# Altium footprint library Altium Footprints.PcbLib: 16 footprints
Each footprint in its own frame and in the unit in brackets; x right, y up, seen from the top. Pads: shape width x height; smd on the part's side, far side on the other; paste and mask are expansions set on the pad; w line width, h text height; cw(c..) or ccw(c..) is an arc to the next point about the centre after c.
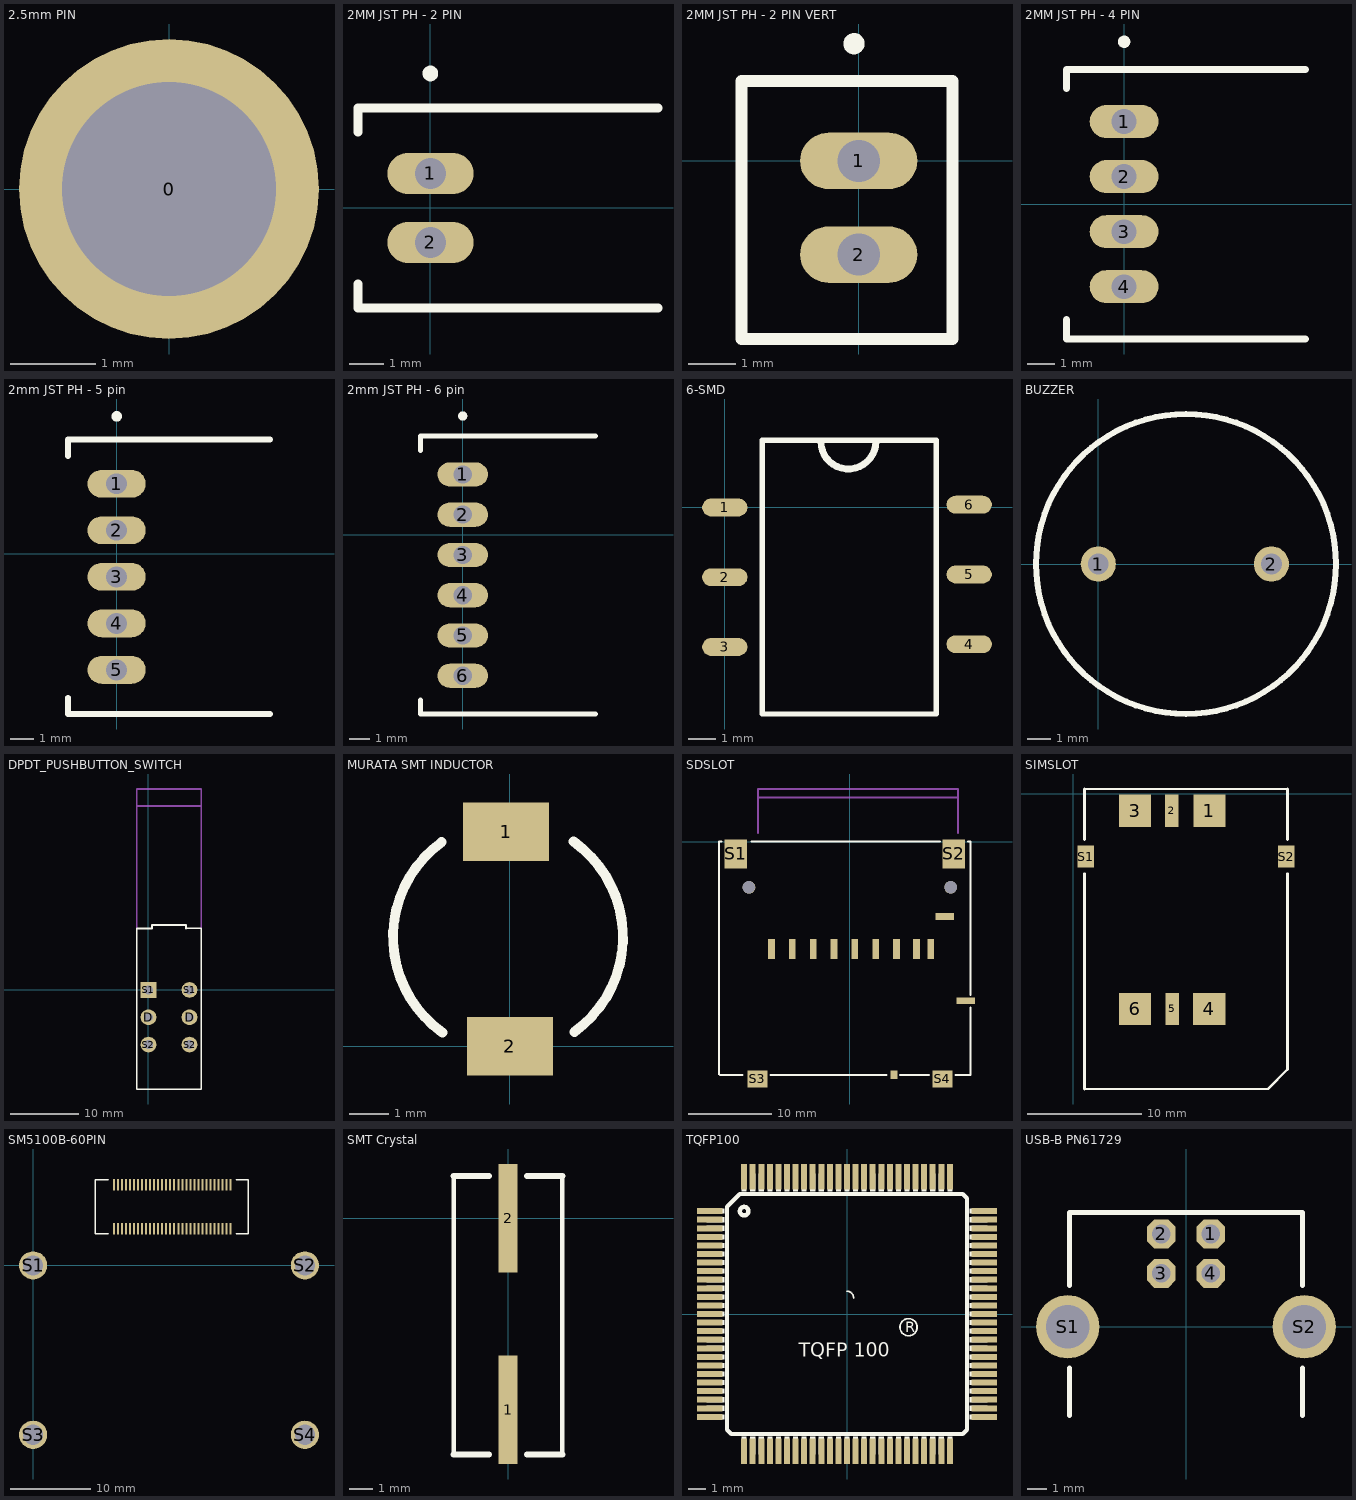
[diagram p0: the footprints below, top view; thin cyan lines are the x and y axes]

## 2.5mm PIN [mm]
pads (1):
  round 3.5 hole 2.5: 0(0,0)

## 2MM JST PH - 2 PIN [mm]
height 4
pads (2):
  oval 2.5x1.2 hole 0.9: 1(0,1) 2(0,-1)
Top Overlay:
  circle w0.254: c0,3.9 r0.1
  lines w0.254: -2.1,-2.2 -2.1,-2.9 6.6,-2.9 ; -2.1,2.2 -2.1,2.9 6.6,2.9
3D body: height 5, standoff 0, extent -2.1,-2.9 6.6,2.9

## 2MM JST PH - 2 PIN VERT [mm]
height 6
pads (2):
  oval 2.5x1.2 hole 0.9: 1(0,0) 2(0,-2)
Top Overlay:
  circle w0.254: c-0.1,2.5 r0.1
  lines w0.254: -2.5,-3.8 2,-3.8 2,1.7 -2.5,1.7 -2.5,-3.8
3D body: height 8, standoff 0, extent -2.5,-3.8 2,1.7

## 2MM JST PH - 4 PIN [mm]
height 4
pads (4):
  oval 2.5x1.2 hole 0.9: 1(0,3) 2(0,1) 3(0,-1) 4(0,-3)
Top Overlay:
  circle w0.254: c0,5.9 r0.1
  lines w0.254: -2.1,-4.2 -2.1,-4.9 6.6,-4.9 ; -2.1,4.2 -2.1,4.9 6.6,4.9
3D body: height 5, standoff 0, extent -2.1,-4.9 6.6,4.9

## 2mm JST PH - 5 pin [mm]
height 4
pads (5):
  oval 2.5x1.2 hole 0.9: 1(0,3) 2(0,1) 3(0,-1) 4(0,-3) 5(0,-5)
Top Overlay:
  circle w0.254: c0,5.9 r0.1
  lines w0.254: -2.1,-6.2 -2.1,-6.9 6.6,-6.9 ; -2.1,4.2 -2.1,4.9 6.6,4.9
3D body: height 5, standoff 0, extent -2.1,-6.9 6.6,4.9

## 2mm JST PH - 6 pin [mm]
height 4
pads (6):
  oval 2.5x1.2 hole 0.9: 1(0,3) 2(0,1) 3(0,-1) 4(0,-3) 5(0,-5) 6(0,-7)
Top Overlay:
  circle w0.254: c0,5.9 r0.1
  lines w0.254: -2.1,-8.2 -2.1,-8.9 6.6,-8.9 ; -2.1,4.2 -2.1,4.9 6.6,4.9
3D body: height 5, standoff 0, extent -2.1,-8.9 6.6,4.9

## 6-SMD [mm]
pads (6):
  oval 1.65x0.65 smd: 1(0,0) 2(0,-2.54) 3(0,-5.08) 4(8.9,-4.98) 5(8.9,-2.44) 6(8.9,0.1)
Top Overlay:
  lines w0.2: 1.36,-7.52 7.7,-7.52 7.7,2.44 1.36,2.44 1.36,-7.52
  lines w0.254: 3.499,2.4 ccw(c4.5,2.4) 5.501,2.4
3D body: height 3, standoff 0, extent 1.36,-7.52 7.7,2.44

## BUZZER [mil] "Piezon Buzzer 458-1066-ND"
height 314.96
pads (2):
  round 60 hole 35.43: 1(0,0) 2(295.28,0)
Top Overlay:
  circle w10: c149.61,0 r255.91
3D body: height 196.85, standoff 0, extent -76.87,-235.75 393.71,235.76

## DPDT_PUSHBUTTON_SWITCH [mm]
height 11.5
pads (6):
  round 2.3 hole 1.3: D(0,-4) D(6,-4) S1(6,0) S2(0,-8) S2(6,-8)
  rect 2.3x2.3 hole 1.3: S1(0,0)
Top Overlay:
  lines w0.2: -1.7,9 -1.7,-14.5 7.7,-14.5 7.7,9 5.5,9
  lines w0.254: -1.7,9 0.5,9 0.5,9.5 5.5,9.5 5.5,9
Mechanical 15:
  lines w0.254: -1.7,9 -1.7,29.4 7.7,29.4 7.7,9.1 ; -1.7,26.9 7.7,26.9
3D body: height 9.5, standoff 1.8, extent -1.7,19 7.7,29.4
3D body: height 11.7, standoff 3, extent 0,9 6,19
3D body: height 11.7, standoff 0, extent -1.7,-14.5 7.7,9

## MURATA SMT INDUCTOR [mm]
height 1.5
pads (2):
  rect 2.2x1.5 smd: 1(-0.1,5.5) 2(0,0)
Top Overlay:
  lines w0.254: -1.753,5.235 ccw(c0,2.8) -1.734,0.352 ; 1.634,5.248 cw(c-0.1,2.8) 1.653,0.365
3D body: height 2, standoff 0, extent -2.976,0.006 3,5.994

## SDSLOT [mm]
height 2.5
pads (18):
  rect 0.8x2.4 smd: 1(-6.9,-12.9) 2(-4.4,-12.9) 3(-1.9,-12.9) 4(0.6,-12.9) 5(3.1,-12.9) 6(5.6,-12.9) 7(8,-12.9) 8(9.7,-12.9) 9(-9.4,-12.9)
  rect 0.8x1 smd: CD(5.3,-28)
  rect 2.25x0.8 smd: COM(13.9,-19.1) WP(11.4,-9)
  rect 2.7x3.5 smd: S1(-13.7,-1.5) S2(12.5,-1.5)
  rect 2.4x2 smd: S3(-11.1,-28.5) S4(11.1,-28.5)
  round 1.524 hole 1.5 unplated: ""(-12.1,-5.5) ""(12.1,-5.5)
Top Overlay:
  lines w0.254: -15.4,0 -15.7,0 -15.7,-0.5 -15.7,-27.9 -15.6,-28 -12.9,-28 ; -11.8,0 10.6,0 10.8,0 ; -9.5,-28 4.4,-28 ; 6,-28 9.5,-28 ; 12.7,-28 14.5,-28 14.5,-19.9 ; 14.2,0 14.5,0 14.5,-18.4
Mechanical 15:
  lines w0.254: -11,1 -11,6.3 13,6.3 13,1 ; -11,5.3 13,5.3
3D body: height 2, standoff 0.4, extent -11,0 13,6.3
3D body: height 2.7, standoff 0, extent -15.7,-28 14.5,0

## SIMSLOT [mm] "6-pin molex 1.9mm sim reader 0473880001"
pads (8):
  rect 2.8x2.8 smd: 1(11.9,-1.5) 3(5.4,-1.5) 4(11.88,-18.8) 6(5.4,-18.8)
  rect 1.2x2.8 smd: 2(8.6,-1.5) 5(8.64,-18.8)
  rect 1.45x1.95 smd: S1(1.1,-5.5) S2(18.6,-5.5)
Top Overlay:
  lines w0.2: 1,-25.8 17,-25.8 18.7,-24.1 ; 1,0.4 18.7,0.4
  lines w0.254: 1,-25.8 1,-7 ; 1,-4 1,0.4 ; 18.7,-24.1 18.7,-7 ; 18.7,-4 18.7,0.4
3D body: height 1.5, standoff 0, extent 1,-25.8 18.7,0.4

## SM5100B-60PIN [mm]
height 1
pads (64):
  rect 0.25x1.4 smd: 1(10,10) 2(10,4.539) 3(10.5,10) 4(10.5,4.539) 5(11,10) 6(11,4.539) 7(11.5,10) 8(11.5,4.539) 9(12,10) 10(12,4.539) 11(12.5,10) 12(12.5,4.539) 13(13,10) 14(13,4.539) 15(13.5,10) 16(13.5,4.539) 17(14,10) 18(14,4.539) 19(14.5,10) 20(14.5,4.539) 21(15,10) 22(15,4.539) 23(15.5,10) 24(15.5,4.539) 25(16,10) 26(16,4.539) 27(16.5,10) 28(16.5,4.539) 29(17,10) 30(17,4.539) 31(17.5,10) 32(17.5,4.539) 33(18,10) 34(18,4.539) 35(18.5,10) 36(18.5,4.539) 37(19,10) 38(19,4.539) 39(19.5,10) 40(19.5,4.539) 41(20,10) 42(20,4.539) 43(20.5,10) 44(20.5,4.539) 45(21,10) 46(21,4.539) 47(21.5,10) 48(21.5,4.539) 49(22,10) 50(22,4.539) 51(22.5,10) 52(22.5,4.539) 53(23,10) 54(23,4.539) 55(23.5,10) 56(23.5,4.539) 57(24,10) 58(24,4.539) 59(24.5,10) 60(24.5,4.539)
  round 3.5 hole 2.5: S1(0,0) S2(33.7,0) S3(0,-21) S4(33.7,-21)
Top Overlay:
  lines w0.2: 9.3,3.939 7.7,3.939 7.7,5.989 7.7,10.635 9.3,10.635 ; 25.2,3.939 26.7,3.939 26.7,5.889 26.7,10.635 25.2,10.635
3D body: height 3, standoff 0, extent 0,-27 34,11

## SMT Crystal [mm]
pads (2):
  rect 0.8x4.6 smd: 1(0,-8.1) 2(0,0)
Top Overlay:
  lines w0.2: -2.3,-10 -2.3,1.8 ; 2.3,-10 2.3,-1.5 2.3,1.8
  lines w0.254: -2.3,-10 -0.8,-10 ; -2.3,1.8 -0.8,1.8 ; 0.8,-10 2.3,-10 ; 0.8,1.8 2.3,1.8
3D body: height 3, standoff 0, extent -2.3,-10 2.3,1.8

## TQFP100 [mm]
pads (100):
  rect 1.5x0.35 smd: 1(-8,6) 2(-8,5.5) 3(-8,5) 4(-8,4.5) 5(-8,4) 6(-8,3.5) 7(-8,3) 8(-8,2.5) 9(-8,2) 10(-8,1.5) 11(-8,1) 12(-8,0.5) 13(-8,0) 14(-8,-0.5) 15(-8,-1) 16(-8,-1.5) 17(-8,-2) 18(-8,-2.5) 19(-8,-3) 20(-8,-3.5) 21(-8,-4) 22(-8,-4.5) 23(-8,-5) 24(-8,-5.5) 25(-8,-6) 51(8,-6) 52(8,-5.5) 53(8,-5) 54(8,-4.5) 55(8,-4) 56(8,-3.5) 57(8,-3) 58(8,-2.5) 59(8,-2) 60(8,-1.5) 61(8,-1) 62(8,-0.5) 63(8,0) 64(8,0.5) 65(8,1) 66(8,1.5) 67(8,2) 68(8,2.5) 69(8,3) 70(8,3.5) 71(8,4) 72(8,4.5) 73(8,5) 74(8,5.5) 75(8,6)
  rect 0.35x1.5 smd: 26(-6,-8) 27(-5.5,-8) 28(-5,-8) 29(-4.5,-8) 30(-4,-8) 31(-3.5,-8) 32(-3,-8) 33(-2.5,-8) 34(-2,-8) 35(-1.5,-8) 36(-1,-8) 37(-0.5,-8) 38(0,-8) 39(0.5,-8) 40(1,-8) 41(1.5,-8) 42(2,-8) 43(2.5,-8) 44(3,-8) 45(3.5,-8) 46(4,-8) 47(4.5,-8) 48(5,-8) 49(5.5,-8) 50(6,-8) 76(6,8) 77(5.5,8) 78(5,8) 79(4.5,8) 80(4,8) 81(3.5,8) 82(3,8) 83(2.5,8) 84(2,8) 85(1.5,8) 86(1,8) 87(0.5,8) 88(0,8) 89(-0.5,8) 90(-1,8) 91(-1.5,8) 92(-2,8) 93(-2.5,8) 94(-3,8) 95(-3.5,8) 96(-4,8) 97(-4.5,8) 98(-5,8) 99(-5.5,8) 100(-6,8)
Top Overlay:
  circle w0.102: c3.59,-0.77 r0.5
  circle w0.254: c-6,6 r0.25
  rectangle: -6.15,7.15 -5.85,8.2
  rectangle: -5.65,7.15 -5.35,8.2
  rectangle: -5.15,7.15 -4.85,8.2
  rectangle: -4.65,7.15 -4.35,8.2
  rectangle: -4.15,7.15 -3.85,8.2
  rectangle: -3.65,7.15 -3.35,8.2
  rectangle: -3.15,7.15 -2.85,8.2
  rectangle: -2.65,7.15 -2.35,8.2
  rectangle: -2.15,7.15 -1.85,8.2
  rectangle: -1.65,7.15 -1.35,8.2
  rectangle: -1.15,7.15 -0.85,8.2
  rectangle: -0.65,7.15 -0.35,8.2
  rectangle: -0.15,7.15 0.15,8.2
  rectangle: 0.35,7.15 0.65,8.2
  rectangle: 0.85,7.15 1.15,8.2
  rectangle: 1.35,7.15 1.65,8.2
  rectangle: 1.85,7.15 2.15,8.2
  rectangle: 2.35,7.15 2.65,8.2
  rectangle: 2.85,7.15 3.15,8.2
  rectangle: 3.35,7.15 3.65,8.2
  rectangle: 3.85,7.15 4.15,8.2
  rectangle: 4.35,7.15 4.65,8.2
  rectangle: 4.85,7.15 5.15,8.2
  rectangle: 5.35,7.15 5.65,8.2
  rectangle: 5.85,7.15 6.15,8.2
  rectangle: 7.15,5.85 8.2,6.15
  rectangle: 7.15,5.35 8.2,5.65
  rectangle: 7.15,4.85 8.2,5.15
  rectangle: 7.15,4.35 8.2,4.65
  rectangle: 7.15,3.85 8.2,4.15
  rectangle: 7.15,3.35 8.2,3.65
  rectangle: 7.15,2.85 8.2,3.15
  rectangle: 7.15,2.35 8.2,2.65
  rectangle: 7.15,1.85 8.2,2.15
  rectangle: 7.15,1.35 8.2,1.65
  rectangle: 7.15,0.85 8.2,1.15
  rectangle: 7.15,0.35 8.2,0.65
  rectangle: 7.15,-0.15 8.2,0.15
  rectangle: 7.15,-0.65 8.2,-0.35
  rectangle: 7.15,-1.15 8.2,-0.85
  rectangle: 7.15,-1.65 8.2,-1.35
  rectangle: 7.15,-2.15 8.2,-1.85
  rectangle: 7.15,-2.65 8.2,-2.35
  rectangle: 7.15,-3.15 8.2,-2.85
  rectangle: 7.15,-3.65 8.2,-3.35
  rectangle: 7.15,-4.15 8.2,-3.85
  rectangle: 7.15,-4.65 8.2,-4.35
  rectangle: 7.15,-5.15 8.2,-4.85
  rectangle: 7.15,-5.65 8.2,-5.35
  rectangle: 7.15,-6.15 8.2,-5.85
  rectangle: 5.85,-8.2 6.15,-7.15
  rectangle: 5.35,-8.2 5.65,-7.15
  rectangle: 4.85,-8.2 5.15,-7.15
  rectangle: 4.35,-8.2 4.65,-7.15
  rectangle: 3.85,-8.2 4.15,-7.15
  rectangle: 3.35,-8.2 3.65,-7.15
  rectangle: 2.85,-8.2 3.15,-7.15
  rectangle: 2.35,-8.2 2.65,-7.15
  rectangle: 1.85,-8.2 2.15,-7.15
  rectangle: 1.35,-8.2 1.65,-7.15
  rectangle: 0.85,-8.2 1.15,-7.15
  rectangle: 0.35,-8.2 0.65,-7.15
  rectangle: -0.15,-8.2 0.15,-7.15
  rectangle: -0.65,-8.2 -0.35,-7.15
  rectangle: -1.15,-8.2 -0.85,-7.15
  rectangle: -1.65,-8.2 -1.35,-7.15
  rectangle: -2.15,-8.2 -1.85,-7.15
  rectangle: -2.65,-8.2 -2.35,-7.15
  rectangle: -3.15,-8.2 -2.85,-7.15
  rectangle: -3.65,-8.2 -3.35,-7.15
  rectangle: -4.15,-8.2 -3.85,-7.15
  rectangle: -4.65,-8.2 -4.35,-7.15
  rectangle: -5.15,-8.2 -4.85,-7.15
  rectangle: -5.65,-8.2 -5.35,-7.15
  rectangle: -6.15,-8.2 -5.85,-7.15
  rectangle: -8.2,-6.15 -7.15,-5.85
  rectangle: -8.2,-5.65 -7.15,-5.35
  rectangle: -8.2,-5.15 -7.15,-4.85
  rectangle: -8.2,-4.65 -7.15,-4.35
  rectangle: -8.2,-4.15 -7.15,-3.85
  rectangle: -8.2,-3.65 -7.15,-3.35
  rectangle: -8.2,-3.15 -7.15,-2.85
  rectangle: -8.2,-2.65 -7.15,-2.35
  rectangle: -8.2,-2.15 -7.15,-1.85
  rectangle: -8.2,-1.65 -7.15,-1.35
  rectangle: -8.2,-1.15 -7.15,-0.85
  rectangle: -8.2,-0.65 -7.15,-0.35
  rectangle: -8.2,-0.15 -7.15,0.15
  rectangle: -8.2,0.35 -7.15,0.65
  rectangle: -8.2,0.85 -7.15,1.15
  rectangle: -8.2,1.35 -7.15,1.65
  rectangle: -8.2,1.85 -7.15,2.15
  rectangle: -8.2,2.35 -7.15,2.65
  rectangle: -8.2,2.85 -7.15,3.15
  rectangle: -8.2,3.35 -7.15,3.65
  rectangle: -8.2,3.85 -7.15,4.15
  rectangle: -8.2,4.35 -7.15,4.65
  rectangle: -8.2,4.85 -7.15,5.15
  rectangle: -8.2,5.35 -7.15,5.65
  rectangle: -8.2,5.85 -7.15,6.15
  lines w0.102: -0.01,1.33 cw(c-0.01,0.93) 0.39,0.93
  lines w0.254: -7,-6.75 -7,6.25 -6.25,7 6.75,7 7,6.75 7,-6.75 6.75,-7 -6.75,-7 -7,-6.75
  text "R" at 3.39,-1.07 h0.61
  text "TQFP 100" at -2.81,-2.48 h0.81

## USB-B PN61729 [mm]
height 8
pads (6):
  oct 1.458x1.458 hole 0.95: 1(1.25,4.71) 2(-1.25,4.71) 3(-1.25,2.71) 4(1.25,2.71)
  round 3.216 hole 2.2: S1(-6,0) S2(6,0)
Top Overlay:
  lines w0.254: -5.9,-4.5 -5.9,-2.1 ; -5.9,2.1 -5.9,5.8 5.9,5.8 5.9,2.1 ; 5.9,-4.5 5.9,-2.1
3D body: height 11.2, standoff 0, extent -5.9,-10.2 5.9,5.6